# Altium schematic symbol library Tugkan.SchLib: 14 symbols
Pins are listed as number, name and electrical type; pins without a type are passive.

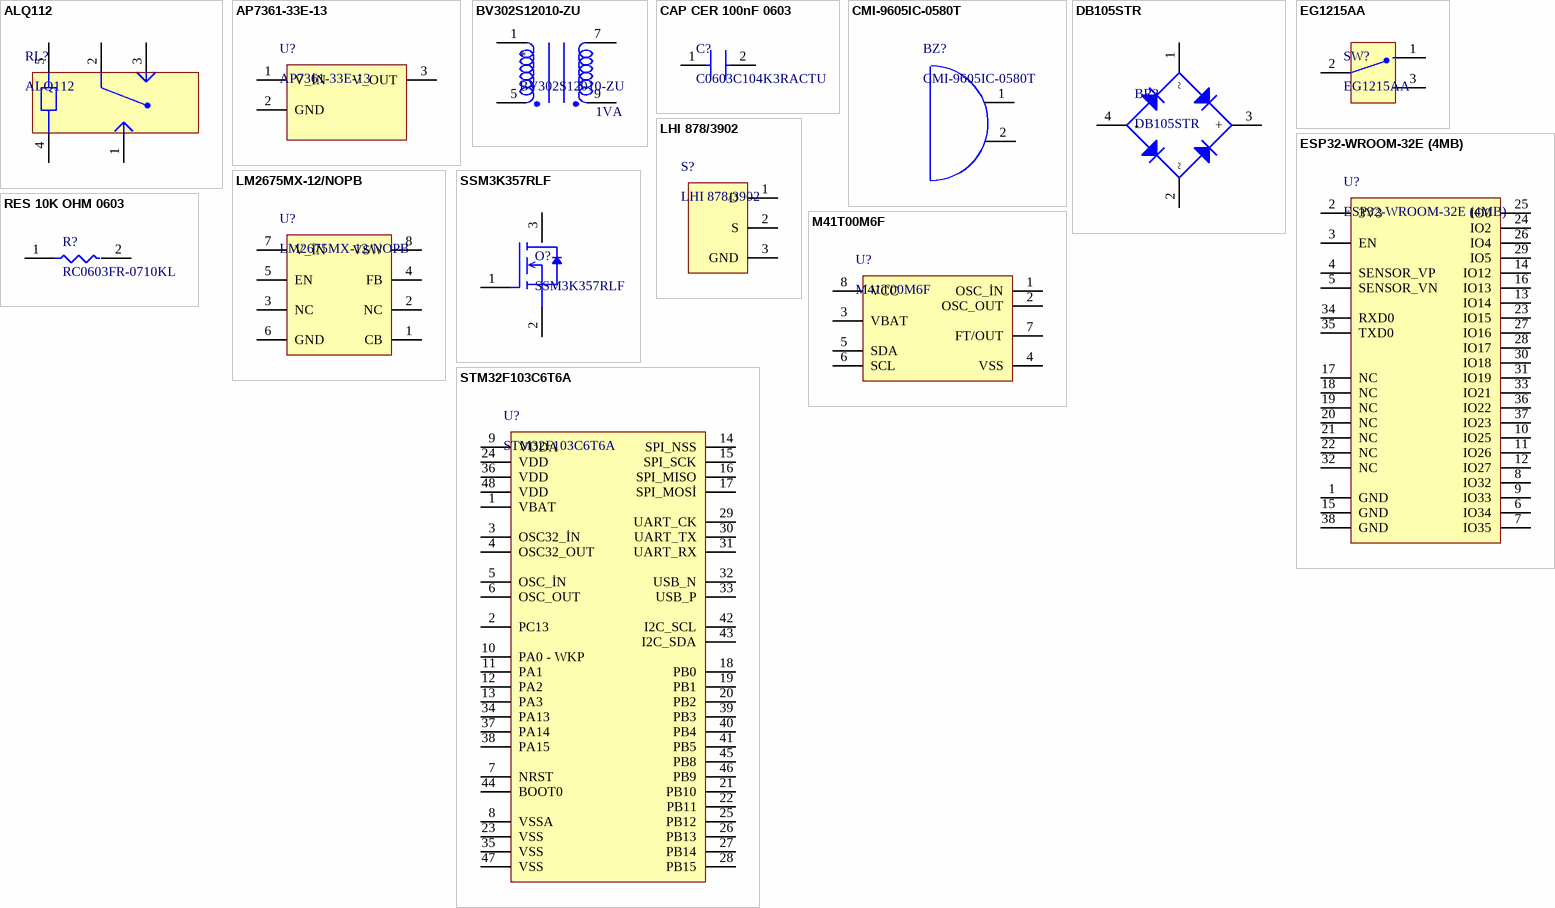
[diagram p0: symbols ALQ112 to STM32F103C6T6A]

## ALQ112
designator RL?
Electromechanical Relay 12VDC 360Ohm 10(NO)/3(NC)A SPDT (( 20mm 10mm 16mm)) THT Power Relay; Manufacturer: Panasonic; Designed By: Tuğkan; Coil Current: 30mA; Coil Power: 400mW; Coil Resistance: 360Ω; Coil Type: Non-Latching; Coil Voltage (DC): 9V; Contact Current Rating: 10A; Contact Resistance: 100mΩ; Contact Voltage Rating (AC): 125V; Electrical Life: 50kcycles; Insulation Resistance: 1GΩ; Max Current Rating: 5A; Max Voltage Rating (AC): 250V; Max Voltage Rating (DC): 30V; Operate Time: 20ms; Relay Type: General Purpose; Sealable: MOISTURE PROOF; Supplier: Farnell; Supplier Part Number: 2503673; Manufacturer Part Number: ALQ112; RoHS: Compliant; Category: Power Relays; Stock: 7013; Pricing: 1=2.25, 10=2.01, 25=1.92, 50=1.85, 100=1.78 (EUR); Contact Material: Silver; Depth: 10mm; Export Control Classification Number (ECCN) Code: EAR99; Height: 16mm; Harmonized Tariff Schedule (HTS) Code: 8536.41.00.20; Introduction Date: 2012-07-17; Lead Free: Lead Free; Length: 20mm; Lifecycle Status: Production; Max Operating Temperature: 85°C; Min Operating Temperature: -40°C; Pins: 5; Number of Terminals: 5; Packaging: Box; Power Consumption: 400mW; Power Rating: 400mW; REACH SVHC: Yes; Release Time: 20ms; Response Time: 20ms; Termination: PC Pin; Throw Configuration: SPDT; Voltage Rating (AC): 250V; Weight: 7g; Width: 10mm; ComponentLink1URL: https://datasheet.octopart.com:443/ALQ112-Panasonic-datasheet-78834688.pdf?src-supplier=IHS; ComponentLink1Description: https://datasheet.octopart.com:443/ALQ112-Panasonic-datasheet-78834688.pdf?src-supplier=IHS; ComponentLink2URL: https://datasheet.octopart.com:443/ALQ112-Panasonic-datasheet-55972779.pdf?src-supplier=RS+(Formerly+Allied+Electronics); ComponentLink2Description: https://datasheet.octopart.com:443/ALQ112-Panasonic-datasheet-55972779.pdf?src-supplier=RS+(Formerly+Allied+Electronics); ComponentLink3URL: https://datasheet.octopart.com:443/ALQ112-Panasonic-datasheet-151511680.pdf?src-supplier=Master+Electronics; ComponentLink3Description: https://datasheet.octopart.com:443/ALQ112-Panasonic-datasheet-151511680.pdf?src-supplier=Master+Electronics; ComponentLink4URL: https://datasheet.octopart.com:443/ALQ112-Panasonic-datasheet-137460476.pdf?src-supplier=Electro+Sonic; ComponentLink4Description: https://datasheet.octopart.com:443/ALQ112-Panasonic-datasheet-137460476.pdf?src-supplier=Electro+Sonic; ComponentLink5URL: https://datasheet.octopart.com:443/ALQ112-Panasonic-datasheet-27086609.pdf?src-supplier=Electro+Sonic; ComponentLink5Description: https://datasheet.octopart.com:443/ALQ112-Panasonic-datasheet-27086609.pdf?src-supplier=Electro+Sonic; ComponentLink6URL: https://datasheet.octopart.com:443/ALQ112-Panasonic-datasheet-45185651.pdf?src-supplier=Electro+Sonic; ComponentLink6Description: https://datasheet.octopart.com:443/ALQ112-Panasonic-datasheet-45185651.pdf?src-supplier=Electro+Sonic; ComponentLink7URL: https://datasheet.octopart.com:443/ALQ112-Panasonic-datasheet-17725145.pdf?src-supplier=Factory+Futures; ComponentLink7Description: https://datasheet.octopart.com:443/ALQ112-Panasonic-datasheet-17725145.pdf?src-supplier=Factory+Futures; ComponentLink8URL: https://datasheet.octopart.com:443/ALQ112-Panasonic-datasheet-21211495.pdf?src-supplier=Newark; ComponentLink8Description: https://datasheet.octopart.com:443/ALQ112-Panasonic-datasheet-21211495.pdf?src-supplier=Newark; Case/Package: ALQ112
footprint ALQ112
pins: 1, 2, 3, 4, 5

## AP7361-33E-13
designator U?
AP7361 Series 3.3 V 1 A Low SMT Dropout Fixed-Mode Regulator - SOT-223; Manufacturer: Diodes Inc.; Designed By: Tuğkan; Accuracy: 1%; Dropout Voltage: 500mV; Max Supply Voltage: 6V; Max Junction Temperature (Tj): 150°C; Max Output current: 1A; Max Power Dissipation: 1.1W; Min Current Limit: 1.1A; Min Input Voltage: 4.3V; Min Supply Voltage: 2.2V; Nominal Supply Current: 70µA; Number of Channels: 1; Output Type: Fixed; Output Voltage: 3.3V; Polarity: Positive; Power Dissipation: 1.1kW; Power Supply Rejection Ratio (PSRR): 65dB; Reference Voltage: 800mV; Voltage Tolerance: 6.5%; Supplier: Farnell; Supplier Part Number: 3482976; Manufacturer Part Number: AP7361-33E-13; RoHS: Compliant; Category: LDO Voltage Regulators; Stock: 3535; Pricing: 5=0.296, 10=0.202, 100=0.154, 500=0.151, 1000=0.148, 5000=0.145, 10000=0.142 (EUR); Ambient Temperature Range High: 85°C; Case/Package: SOT-223; China RoHS: Compliant; Contact Plating: Tin; Height: 1.8mm; Height - Seated (Max): 1.8mm; Lead Free: Lead Free; Length: 6.5mm; Lifecycle Status: NRND; Max Operating Temperature: 85°C; Min Operating Temperature: -40°C; Mounting Technology: Surface Mount; Number of Circuits: 1; Number of Outputs: 1; Pins: 4; Number of Regulators: 1; Number of Terminals: 3; Output Current: 1A; Quiescent Current: 70µA; Radiation Hardening: No; REACH SVHC: Yes; Schedule B: 8542390000, 8542390000|8542390000|8542390000|8542390000|8542390000; Terminal Pitch: 2.3mm; Weight: 7.994566mg; Width: 3.5mm; ComponentLink1URL: https://datasheet.octopart.com:443/AP7361-33E-13-Diodes-Inc.-datasheet-98864116.pdf?src-supplier=IHS; ComponentLink1Description: https://datasheet.octopart.com:443/AP7361-33E-13-Diodes-Inc.-datasheet-98864116.pdf?src-supplier=IHS; ComponentLink2URL: https://sigma.octopart.com:443/138895852/technical_drawing/Diodes-Inc.-AP7361-33E-13.pdf?src-supplier=Upverter; ComponentLink2Description: https://sigma.octopart.com:443/138895852/technical_drawing/Diodes-Inc.-AP7361-33E-13.pdf?src-supplier=Upverter; ComponentLink3URL: https://datasheet.octopart.com:443/AP7361-33E-13-Diodes-Inc.-datasheet-12540156.pdf?src-supplier=Future+Electronics; ComponentLink3Description: https://datasheet.octopart.com:443/AP7361-33E-13-Diodes-Inc.-datasheet-12540156.pdf?src-supplier=Future+Electronics; ComponentLink4URL: https://datasheet.octopart.com:443/AP7361-33E-13-Diodes-Inc.-datasheet-41619607.pdf?src-supplier=Future+Electronics; ComponentLink4Description: https://datasheet.octopart.com:443/AP7361-33E-13-Diodes-Inc.-datasheet-41619607.pdf?src-supplier=Future+Electronics; ComponentLink5URL: http://sigma.octopart.com:80/15540767/rohs_statement/Diodes-Inc.-AP7361-33E-13.pdf?src-supplier=Compliance+Statements; ComponentLink5Description: http://sigma.octopart.com:80/15540767/rohs_statement/Diodes-Inc.-AP7361-33E-13.pdf?src-supplier=Compliance+Statements
footprint SOT223
pins: 1 V_İN, 2 GND, 3 V_OUT

## BV302S12010-ZU
designator *  Rated Power: 1VA
Manufacturer: Zettler Magnetics; Manufacturer Part Number: BV302512010-ZU; Designed By: Tuğkan; Primary Voltage: 230V; Secondary Voltage: 12V; Operating Frequency: 50-60HZ; Supplier 1: DigiKey; RoHS: No; Case/Package: BV302S12010-ZU
footprint BV302S12010-ZU
pins: 1 4, 5, 7 6, 9 7

## CAP CER 100nF 0603
designator C?, comment C0603C104K3RACTU
100 nF ±10% 10V Ceramic Capacitor X5R 0201 (0603 Metric); Manufacturer: KEMET; Designed By: Tuğkan; Value: 100nF; Dielectric: X7R; Dissipation Factor: 3.5%; Temperature Coefficient: 30ppm/°C; Voltage: 25V; Supplier: Farnell; Supplier Part Number: 2392303; Manufacturer Part Number: C0603C104K3RACTU; RoHS: Compliant; Category: Ceramic Capacitors; Stock: 3638000; Pricing: 4000=0.0129 (EUR); Case/Package: 0603; Case Code (Imperial): 0603; China RoHS: Compliant; Contact Plating: Tin; Country of Origin: Mexico; Depth: 800µm; Dielectric Material: Ceramic; Export Control Classification Number (ECCN) Code: EAR99; Height: 800µm; Harmonized Tariff Schedule (HTS) Code: 8532.24.00.20; Introduction Date: 2008-01-10; Lead Free: Lead Free; Lead Pitch: 700µm; Length: 1.6mm; Lifecycle Status: Production; Material: Ceramic; Max Operating Temperature: 125°C; Min Operating Temperature: -55°C; Mounting Technology: Surface Mount; Pins: 2; Number of Terminals: 2; Packaging: Tape & Reel; Radiation Hardening: No; REACH SVHC: Yes; Schedule B: 8532240020, 8532240020|8532240020, 8532240020|8532240020|8532240020, 8532240020|8532240020|8532240020|8532240020; Termination: SMD/SMT; Thickness: 863.6µm; Tolerance: 10%; Voltage Rating: 25V; Voltage Rating (DC): 25V; Width: 800µm; ComponentLink1URL: https://datasheet.octopart.com:443/C0603C104K3RAC7867-KEMET-datasheet-179096308.pdf?src-supplier=IHS; ComponentLink1Description: https://datasheet.octopart.com:443/C0603C104K3RAC7867-KEMET-datasheet-179096308.pdf?src-supplier=IHS; ComponentLink2URL: https://datasheet.octopart.com:443/C0603C104K3RACTU-KEMET-datasheet-178445679.pdf?src-supplier=IHS; ComponentLink2Description: https://datasheet.octopart.com:443/C0603C104K3RACTU-KEMET-datasheet-178445679.pdf?src-supplier=IHS; ComponentLink3URL: https://datasheet.octopart.com:443/C0603C104K3RAC-TU-Kemet-datasheet-5313890.pdf?src-supplier=Upverter; ComponentLink3Description: https://datasheet.octopart.com:443/C0603C104K3RAC-TU-Kemet-datasheet-5313890.pdf?src-supplier=Upverter; ComponentLink4URL: https://datasheet.octopart.com:443/C0603C104K3RACTU-KEMET-datasheet-137357764.pdf?src-supplier=Upverter; ComponentLink4Description: https://datasheet.octopart.com:443/C0603C104K3RACTU-KEMET-datasheet-137357764.pdf?src-supplier=Upverter; ComponentLink5URL: https://datasheet.octopart.com:443/C0603C104K3RACTU-KEMET-datasheet-137357759.pdf?src-supplier=JRH+Electronics; ComponentLink5Description: https://datasheet.octopart.com:443/C0603C104K3RACTU-KEMET-datasheet-137357759.pdf?src-supplier=JRH+Electronics; ComponentLink6URL: https://datasheet.octopart.com:443/C0603C104K3RACTU-KEMET-datasheet-149521852.pdf?src-supplier=Farnell; ComponentLink6Description: https://datasheet.octopart.com:443/C0603C104K3RACTU-KEMET-datasheet-149521852.pdf?src-supplier=Farnell; ComponentLink7URL: https://datasheet.octopart.com:443/C0603C104K3RACTU-KEMET-datasheet-101575651.pdf?src-supplier=Farnell; ComponentLink7Description: https://datasheet.octopart.com:443/C0603C104K3RACTU-KEMET-datasheet-101575651.pdf?src-supplier=Farnell; ComponentLink8URL: https://datasheet.octopart.com:443/C0603C104K3RACTU-KEMET-datasheet-176142157.pdf?src-supplier=Farnell; ComponentLink8Description: https://datasheet.octopart.com:443/C0603C104K3RACTU-KEMET-datasheet-176142157.pdf?src-supplier=Farnell; ComponentLink9URL: https://datasheet.octopart.com:443/C0603C104K3RAC-TU-Kemet-datasheet-7833651.pdf?src-supplier=Farnell; ComponentLink9Description: https://datasheet.octopart.com:443/C0603C104K3RAC-TU-Kemet-datasheet-7833651.pdf?src-supplier=Farnell; ComponentLink10URL: https://datasheet.octopart.com:443/C0603C104K3RAC-TU-Kemet-datasheet-7601896.pdf?src-supplier=Farnell; ComponentLink10Description: https://datasheet.octopart.com:443/C0603C104K3RAC-TU-Kemet-datasheet-7601896.pdf?src-supplier=Farnell; ComponentLink11URL: https://datasheet.octopart.com:443/C0603C104K3RAC-TU-Kemet-datasheet-5316294.pdf?src-supplier=Farnell; ComponentLink11Description: https://datasheet.octopart.com:443/C0603C104K3RAC-TU-Kemet-datasheet-5316294.pdf?src-supplier=Farnell; ComponentLink12URL: https://datasheet.octopart.com:443/C0603C104K3RAC-TU-Kemet-datasheet-5314837.pdf?src-supplier=Farnell; ComponentLink12Description: https://datasheet.octopart.com:443/C0603C104K3RAC-TU-Kemet-datasheet-5314837.pdf?src-supplier=Farnell; ComponentLink13URL: https://datasheet.octopart.com:443/C0603C104K3RAC-TU-Kemet-datasheet-8092359.pdf?src-supplier=Farnell; ComponentLink13Description: https://datasheet.octopart.com:443/C0603C104K3RAC-TU-Kemet-datasheet-8092359.pdf?src-supplier=Farnell; ComponentLink14URL: https://datasheet.octopart.com:443/C0603C104K3RAC-TU-Kemet-datasheet-5314449.pdf?src-supplier=Farnell; ComponentLink14Description: https://datasheet.octopart.com:443/C0603C104K3RAC-TU-Kemet-datasheet-5314449.pdf?src-supplier=Farnell; ComponentLink15URL: https://datasheet.octopart.com:443/C0603C104K3RAC-TU-Kemet-datasheet-5314969.pdf?src-supplier=Farnell; ComponentLink15Description: https://datasheet.octopart.com:443/C0603C104K3RAC-TU-Kemet-datasheet-5314969.pdf?src-supplier=Farnell; ComponentLink16URL: https://datasheet.octopart.com:443/C0603C104K3RAC-TU-Kemet-datasheet-5314627.pdf?src-supplier=Farnell; ComponentLink16Description: https://datasheet.octopart.com:443/C0603C104K3RAC-TU-Kemet-datasheet-5314627.pdf?src-supplier=Farnell; ComponentLink17URL: https://datasheet.octopart.com:443/C0603C104K3RAC-TU-Kemet-datasheet-5389132.pdf?src-supplier=Farnell; ComponentLink17Description: https://datasheet.octopart.com:443/C0603C104K3RAC-TU-Kemet-datasheet-5389132.pdf?src-supplier=Farnell; ComponentLink18URL: https://datasheet.octopart.com:443/C0603C104K3RAC-TU-Kemet-datasheet-5313836.pdf?src-supplier=Farnell; ComponentLink18Description: https://datasheet.octopart.com:443/C0603C104K3RAC-TU-Kemet-datasheet-5313836.pdf?src-supplier=Farnell; ComponentLink19URL: https://datasheet.octopart.com:443/C0603C104K3RAC-TU-Kemet-datasheet-8111010.pdf?src-supplier=Farnell; ComponentLink19Description: https://datasheet.octopart.com:443/C0603C104K3RAC-TU-Kemet-datasheet-8111010.pdf?src-supplier=Farnell; ComponentLink20URL: https://datasheet.octopart.com:443/C0603C104K3RAC-TU-Kemet-datasheet-7627733.pdf?src-supplier=Farnell; ComponentLink20Description: https://datasheet.octopart.com:443/C0603C104K3RAC-TU-Kemet-datasheet-7627733.pdf?src-supplier=Farnell; ComponentLink21URL: https://datasheet.octopart.com:443/C0603C104K3RAC-TU-Kemet-datasheet-5315946.pdf?src-supplier=Farnell; ComponentLink21Description: https://datasheet.octopart.com:443/C0603C104K3RAC-TU-Kemet-datasheet-5315946.pdf?src-supplier=Farnell; ComponentLink22URL: https://datasheet.octopart.com:443/C0603C104K3RACTU-Kemet-datasheet-32036385.pdf?src-supplier=Electro+Sonic; ComponentLink22Description: https://datasheet.octopart.com:443/C0603C104K3RACTU-Kemet-datasheet-32036385.pdf?src-supplier=Electro+Sonic; ComponentLink23URL: https://datasheet.octopart.com:443/C0603C104K3RACTU-KEMET-datasheet-157246124.pdf?src-supplier=Electro+Sonic; ComponentLink23Description: https://datasheet.octopart.com:443/C0603C104K3RACTU-KEMET-datasheet-157246124.pdf?src-supplier=Electro+Sonic; ComponentLink24URL: https://datasheet.octopart.com:443/C0603C104K3RACTU-Kemet-datasheet-12608295.pdf?src-supplier=element14+APAC; ComponentLink24Description: https://datasheet.octopart.com:443/C0603C104K3RACTU-Kemet-datasheet-12608295.pdf?src-supplier=element14+APAC; ComponentLink25URL: https://datasheet.octopart.com:443/C0603C104K3RACTU-Kemet-datasheet-11992184.pdf?src-supplier=element14+APAC; ComponentLink25Description: https://datasheet.octopart.com:443/C0603C104K3RACTU-Kemet-datasheet-11992184.pdf?src-supplier=element14+APAC; ComponentLink26URL: https://datasheet.octopart.com:443/C0603C104K3RACTU-Kemet-datasheet-10942409.pdf?src-supplier=element14+APAC; ComponentLink26Description: https://datasheet.octopart.com:443/C0603C104K3RACTU-Kemet-datasheet-10942409.pdf?src-supplier=element14+APAC; ComponentLink27URL: https://datasheet.octopart.com:443/C0603C104K3RACTU-Kemet-datasheet-10404442.pdf?src-supplier=element14+APAC; ComponentLink27Description: https://datasheet.octopart.com:443/C0603C104K3RACTU-Kemet-datasheet-10404442.pdf?src-supplier=element14+APAC; ComponentLink28URL: https://datasheet.octopart.com:443/C0603C104K3RACTU-Kemet-datasheet-24570007.pdf?src-supplier=element14+APAC; ComponentLink28Description: https://datasheet.octopart.com:443/C0603C104K3RACTU-Kemet-datasheet-24570007.pdf?src-supplier=element14+APAC; ComponentLink29URL: https://datasheet.octopart.com:443/C0603C104K3RACTU-Kemet-datasheet-22084244.pdf?src-supplier=element14+APAC; ComponentLink29Description: https://datasheet.octopart.com:443/C0603C104K3RACTU-Kemet-datasheet-22084244.pdf?src-supplier=element14+APAC; ComponentLink30URL: https://datasheet.octopart.com:443/C0603C104K3RAC-TU-Kemet-datasheet-5390537.pdf?src-supplier=Newark; ComponentLink30Description: https://datasheet.octopart.com:443/C0603C104K3RAC-TU-Kemet-datasheet-5390537.pdf?src-supplier=Newark; ComponentLink31URL: https://datasheet.octopart.com:443/C0603C104K3RAC-TU-Kemet-datasheet-7541751.pdf?src-supplier=Newark; ComponentLink31Description: https://datasheet.octopart.com:443/C0603C104K3RAC-TU-Kemet-datasheet-7541751.pdf?src-supplier=Newark; ComponentLink32URL: https://datasheet.octopart.com:443/C0603C104K3RACTU-KEMET-datasheet-176289393.pdf?src-supplier=Newark; ComponentLink32Description: https://datasheet.octopart.com:443/C0603C104K3RACTU-KEMET-datasheet-176289393.pdf?src-supplier=Newark; ComponentLink33URL: https://datasheet.octopart.com:443/C0603C104K3RACTU-KEMET-datasheet-130256537.pdf?src-supplier=Newark; ComponentLink33Description: https://datasheet.octopart.com:443/C0603C104K3RACTU-KEMET-datasheet-130256537.pdf?src-supplier=Newark; ComponentLink34URL: https://datasheet.octopart.com:443/C0603C104K3RACTU-Kemet-datasheet-27203261.pdf?src-supplier=Newark; ComponentLink34Description: https://datasheet.octopart.com:443/C0603C104K3RACTU-Kemet-datasheet-27203261.pdf?src-supplier=Newark; ComponentLink35URL: https://datasheet.octopart.com:443/C0603C104K3RACTU-Kemet-datasheet-8764837.pdf?src-supplier=Newark; ComponentLink35Description: https://datasheet.octopart.com:443/C0603C104K3RACTU-Kemet-datasheet-8764837.pdf?src-supplier=Newark; ComponentLink36URL: https://datasheet.octopart.com:443/C0603C104K3RACTU-Kemet-datasheet-8480123.pdf?src-supplier=Newark; ComponentLink36Description: https://datasheet.octopart.com:443/C0603C104K3RACTU-Kemet-datasheet-8480123.pdf?src-supplier=Newark; ComponentLink37URL: https://datasheet.octopart.com:443/C0603C104K3RACTU-Kemet-datasheet-5393970.pdf?src-supplier=Newark; ComponentLink37Description: https://datasheet.octopart.com:443/C0603C104K3RACTU-Kemet-datasheet-5393970.pdf?src-supplier=Newark; ComponentLink38URL: https://datasheet.octopart.com:443/C0603C104K3RACTU-Kemet-datasheet-8502025.pdf?src-supplier=Newark; ComponentLink38Description: https://datasheet.octopart.com:443/C0603C104K3RACTU-Kemet-datasheet-8502025.pdf?src-supplier=Newark; ComponentLink39URL: https://datasheet.octopart.com:443/C0603C104K3RACTU-Kemet-datasheet-161801.pdf?src-supplier=Newark; ComponentLink39Description: https://datasheet.octopart.com:443/C0603C104K3RACTU-Kemet-datasheet-161801.pdf?src-supplier=Newark; ComponentLink40URL: https://datasheet.octopart.com:443/C0603C104K3RACTU-KEMET-datasheet-164512540.pdf?src-supplier=TME; ComponentLink40Description: https://datasheet.octopart.com:443/C0603C104K3RACTU-KEMET-datasheet-164512540.pdf?src-supplier=TME; ComponentLink41URL: https://datasheet.octopart.com:443/C0603C104K3RACTU-KEMET-datasheet-73766504.pdf?src-supplier=TME; ComponentLink41Description: https://datasheet.octopart.com:443/C0603C104K3RACTU-KEMET-datasheet-73766504.pdf?src-supplier=TME; ComponentLink42URL: https://datasheet.octopart.com:443/C0603C104K3RACTU-KEMET-datasheet-68331906.pdf?src-supplier=TME; ComponentLink42Description: https://datasheet.octopart.com:443/C0603C104K3RACTU-KEMET-datasheet-68331906.pdf?src-supplier=TME; ComponentLink43URL: https://datasheet.octopart.com:443/C0603C104K3RACTU-KEMET-datasheet-110724412.pdf?src-supplier=RS+(Formerly+Allied+Electronics); ComponentLink43Description: https://datasheet.octopart.com:443/C0603C104K3RACTU-KEMET-datasheet-110724412.pdf?src-supplier=RS+(Formerly+Allied+Electronics); ComponentLink44URL: https://datasheet.octopart.com:443/C0603C104K3RACTU-Kemet-datasheet-464.pdf?src-supplier=RS+(Formerly+Allied+Electronics); ComponentLink44Description: https://datasheet.octopart.com:443/C0603C104K3RACTU-Kemet-datasheet-464.pdf?src-supplier=RS+(Formerly+Allied+Electronics); ComponentLink45URL: https://datasheet.octopart.com/C0603C104K3RACTU-KEMET-datasheet-84169754.pdf; ComponentLink45Description: https://datasheet.octopart.com/C0603C104K3RACTU-KEMET-datasheet-84169754.pdf; ComponentLink46URL: https://datasheet.octopart.com:443/C0603C104K3RACTU-Kemet-datasheet-11774378.pdf?src-supplier=Arrow+Electronics; ComponentLink46Description: https://datasheet.octopart.com:443/C0603C104K3RACTU-Kemet-datasheet-11774378.pdf?src-supplier=Arrow+Electronics; ComponentLink47URL: https://datasheet.octopart.com:443/C0603C104K3RAC-TU-Kemet-datasheet-7284545.pdf?src-supplier=Jameco; ComponentLink47Description: https://datasheet.octopart.com:443/C0603C104K3RAC-TU-Kemet-datasheet-7284545.pdf?src-supplier=Jameco
footprint CAP_0603
pins: 1 6, 2 7

## CMI-9605IC-0580T
designator BZ?
9.6 mm, 5 Vdc, 80 dB, Through Hole, Driving Circuit, Magnetic Audio Indicator Buzzer; Manufacturer: Same Sky; Shape: Round; Voltage Rating: 5V; Supplier: Arrow Electronics; Supplier Part Number: CMI-9605IC-0580T; Manufacturer Part Number: CMI-9605IC-0580T; RoHS: Compliant; Category: Buzzers; Stock: 113; Pricing: 1=0.9184 (USD); Height: 5mm; Length: 9.6mm; Lifecycle Status: Production; Mounting Technology: Through Hole; Schedule B: 8531800040, 8531800040|8531800040, 8531800040|8531800040|8531800040, 8531800040|8531800040|8531800040|8531800040; Width: 9.6mm; ComponentLink1URL: https://datasheet.octopart.com:443/CMI-9605IC-0580T-Same-Sky-datasheet-188822489.pdf?src-supplier=Same+Sky; ComponentLink1Description: https://datasheet.octopart.com:443/CMI-9605IC-0580T-Same-Sky-datasheet-188822489.pdf?src-supplier=Same+Sky; ComponentLink2URL: https://datasheet.octopart.com:443/CMI-9605IC-0580T-Same-Sky-datasheet-181914603.pdf?src-supplier=Same+Sky; ComponentLink2Description: https://datasheet.octopart.com:443/CMI-9605IC-0580T-Same-Sky-datasheet-181914603.pdf?src-supplier=Same+Sky; ComponentLink3URL: https://datasheet.octopart.com:443/CMI-9605IC-0580T-Same-Sky-datasheet-182879756.pdf?src-supplier=Electro+Sonic; ComponentLink3Description: https://datasheet.octopart.com:443/CMI-9605IC-0580T-Same-Sky-datasheet-182879756.pdf?src-supplier=Electro+Sonic; ComponentLink4URL: https://datasheet.octopart.com:443/CMI-9605IC-0580T-Same-Sky-datasheet-189104509.pdf?src-supplier=Master+Electronics; ComponentLink4Description: https://datasheet.octopart.com:443/CMI-9605IC-0580T-Same-Sky-datasheet-189104509.pdf?src-supplier=Master+Electronics; ComponentLink5URL: https://datasheet.octopart.com:443/CMI-9605IC-0580T-Same-Sky-datasheet-188930169.pdf?src-supplier=TME; ComponentLink5Description: https://datasheet.octopart.com:443/CMI-9605IC-0580T-Same-Sky-datasheet-188930169.pdf?src-supplier=TME; ComponentLink6URL: https://datasheet.octopart.com:443/CMI-9605IC-0580T-CUI-Devices-datasheet-175926881.pdf?src-supplier=CUI+Devices+SCT; ComponentLink6Description: https://datasheet.octopart.com:443/CMI-9605IC-0580T-CUI-Devices-datasheet-175926881.pdf?src-supplier=CUI+Devices+SCT; ComponentLink7URL: https://datasheet.octopart.com:443/CMI-9605IC-0580T-CUI-Devices-datasheet-142347661.pdf?src-supplier=CUI+Devices+SCT; ComponentLink7Description: https://datasheet.octopart.com:443/CMI-9605IC-0580T-CUI-Devices-datasheet-142347661.pdf?src-supplier=CUI+Devices+SCT; ComponentLink8URL: https://octopart.com:443/opatz8j6/c1?t=gNoYZBnXsqZAiqa4lELlm7Ay1TIAOyxMCbO6gUmOTd14-ico8ztZ7o9YEEhdoMdi29SlHCkZwMQySa7EtK9snRVWLe1NQD2Viq_G6CNxm550ZqxJcVJ97jiWITRdXg6qgt_8BUBnoJN3ksgOHr6NtoXdrNBvmTvSBosYG4dyHtcaS6oVgSZP5HIZLHWb8PFGLLwOZyr6iNcJeRpui-ITlm-aYThpuK9urovyjTGSytXZdGDLc2qewTqwN41_H9XadGc658N-d-C6Wp7a4XSk1kLFJhkl0sGl6vPoClgESX7RXNA55XSGH5PVWlY2xYxHus0x7ZD2SVdpq-EMo7F9bqL5ROhyYr2lduvRr2WpM4jJ&src-supplier=Compliance+Statements; ComponentLink8Description: https://octopart.com:443/opatz8j6/c1?t=gNoYZBnXsqZAiqa4lELlm7Ay1TIAOyxMCbO6gUmOTd14-ico8ztZ7o9YEEhdoMdi29SlHCkZwMQySa7EtK9snRVWLe1NQD2Viq_G6CNxm550ZqxJcVJ97jiWITRdXg6qgt_8BUBnoJN3ksgOHr6NtoXdrNBvmTvSBosYG4dyHtcaS6oVgSZP5HIZLHWb8PFGLLwOZyr6iNcJeRpui-ITlm-aYThpuK9urovyjTGSytXZdGDLc2qewTqwN41_H9XadGc658N-d-C6Wp7a4XSk1kLFJhkl0sGl6vPoClgESX7RXNA55XSGH5PVWlY2xYxHus0x7ZD2SVdpq-EMo7F9bqL5ROhyYr2lduvRr2WpM4jJ&src-supplier=Compliance+Statements; ComponentLink9URL: https://octopart.com:443/opatz8j6/c1?t=06Hfs3Jjd3gz28tx2AzmzamLHM4oyeQPJ9_XTeKRkfiYWjpNy2dLXT53dGgfFcGkUN5boXnYc--opHBMbImPIds--bHflgBDtgpoLCZl0n8-qmPpGDcJRIHhNSzumo2im2CGBPJBoKxXIIuC4tMZoLjY4Vbw6VyrFL0ykrRKc7A5KR7lg7hVa_18uoBWnkLB6wyMRMWN64AnaG-TMQEA3Zi8ra9tYpvAwMD2_MyaiWa101eB020NnTHAwgk-d3IBAYDRMjn2bUyDkowwBKSbU3_tIVo_CNN4hV_B1hf-w4K2opDfrmLL1RVSfzswdmmPMYWINcmeCbAk7fgARi_YdxM4HCubciL8UGiy61jq5DZQ&src-supplier=Compliance+Statements; ComponentLink9Description: https://octopart.com:443/opatz8j6/c1?t=06Hfs3Jjd3gz28tx2AzmzamLHM4oyeQPJ9_XTeKRkfiYWjpNy2dLXT53dGgfFcGkUN5boXnYc--opHBMbImPIds--bHflgBDtgpoLCZl0n8-qmPpGDcJRIHhNSzumo2im2CGBPJBoKxXIIuC4tMZoLjY4Vbw6VyrFL0ykrRKc7A5KR7lg7hVa_18uoBWnkLB6wyMRMWN64AnaG-TMQEA3Zi8ra9tYpvAwMD2_MyaiWa101eB020NnTHAwgk-d3IBAYDRMjn2bUyDkowwBKSbU3_tIVo_CNN4hV_B1hf-w4K2opDfrmLL1RVSfzswdmmPMYWINcmeCbAk7fgARi_YdxM4HCubciL8UGiy61jq5DZQ&src-supplier=Compliance+Statements; Cash/Package: CMI-9605IC
footprint CMI-9605IC-0580T
pins: 1 42, 2 43

## DB105STR
designator BR?
Bridge Rectifier Single Phase Standard 600 V Surface Mount DB-S; Manufacturer: Sangdesk Microelectronik; Designed by: Tuğkan; Operating Voltage: 600V; Max Current: 1A; Supplier 1: DigiKey; Manufacturer Part Num: DB105STR; RoHS: No; Supplier Part Number: 1655-1821-1-ND; Cash/Package: DB105STR
footprint DB105STR
pins: 1 ~, 2 ~, 3 +, 4 -

## EG1215AA
designator SW?
Slide Switch, SPDT, On-on, 25 ma, 24V DC, Surf. Mt., Ra, Gull Wing; Manufacturer: E-Switch; Contact Current Rating: 25mA; Number of Positions: 2; Supplier: Farnell; Supplier Part Number: 4050996; Manufacturer Part Number: EG1215AA; RoHS: Compliant; Category: Uncategorized; Stock: 7439; Pricing: 1=0.838, 10=0.714, 25=0.664, 50=0.628, 100=0.592 (EUR); Contact Material: Copper; Country of Origin: Vietnam; Export Control Classification Number (ECCN) Code: EAR99; Harmonized Tariff Schedule (HTS) Code: 8536.50.70.00; Introduction Date: 2018-06-18; Lifecycle Status: Production; REACH SVHC: Yes; ComponentLink1URL: https://datasheet.octopart.com:443/EG1215AA-E-Switch-datasheet-182201887.pdf?src-supplier=IHS; ComponentLink1Description: https://datasheet.octopart.com:443/EG1215AA-E-Switch-datasheet-182201887.pdf?src-supplier=IHS; ComponentLink2URL: https://datasheet.octopart.com:443/EG1215AA-E-Switch-datasheet-156105969.pdf?src-supplier=Future+Electronics; ComponentLink2Description: https://datasheet.octopart.com:443/EG1215AA-E-Switch-datasheet-156105969.pdf?src-supplier=Future+Electronics; ComponentLink3URL: https://datasheet.octopart.com:443/EG1215AA-E-Switch-datasheet-101745667.pdf?src-supplier=Electro+Sonic; ComponentLink3Description: https://datasheet.octopart.com:443/EG1215AA-E-Switch-datasheet-101745667.pdf?src-supplier=Electro+Sonic
pins: 1, 2, 3

## ESP32-WROOM-32E (4MB)
designator U?
Bluetooth, WiFi 802.11b/g/n, Bluetooth v4.2 +EDR, Class 1, 2 and 3 Transceiver Module 2.4GHz ~ 2.5GHz PCB Trace Surface Mount; Suppley Voltage-Nom: 3V3; Max Operating Temperature: +85; Min Operating Temperature: -40
pins: 1 GND, 2 3V3, 3 EN, 4 SENSOR_VP, 5 SENSOR_VN, 6 IO34, 7 IO35, 8 IO32, 9 IO33, 10 IO25, 11 IO26, 12 IO27, 13 IO14, 14 IO12, 15 GND, 16 IO13, 17 NC, 18 NC, 19 NC, 20 NC, 21 NC, 22 NC, 23 IO15, 24 IO2, 25 IO0, 26 IO4, 27 IO16, 28 IO17, 29 IO5, 30 IO18, 31 IO19, 32 NC, 33 IO21, 34 RXD0, 35 TXD0, 36 IO22, 37 IO23, 38 GND

## LHI 878/3902
designator S?
Sensor PIR (Passive Infrared) TO-205AA, TO-5-3 Metal Can; Designed by: Tuğkan; Max Supply Voltage: 12V; Min Supply Voltage: 2V; Type: Pyro Detector; Supplier Part Number: 1601-LHI878/3902-ND; Supplier 1: DigiKey; Cash/Package: LHI 878/3902
footprint LHI 878/3902
pins: 1 D, 2 S, 3 GND

## LM2675MX-12/NOPB
designator U?
SIMPLE SWITCHER® 6.5V to 40V, 1A Low Component Count Step-Down Regulator 8-SOIC -40 to 125; Manufacturer: Texas Instruments; Manufacturer Lifecycle Status: ACTIVE; Efficiency: 94%; Max Duty Cycle: 95%; Max Junction Temperature (Tj): 125°C; Min Input Voltage: 8V; Nominal Supply Current: 2.5mA; Number of Outputs: 1; Output Type: Fixed; Output Voltage: 12V; Switching Frequency: 260kHz; Synchronous Rectifier: No; Topology: Buck; Designed By: Tuğkan; Supplier: Arrow Electronics; Supplier Part Number: LM2675MX-12/NOPB; Manufacturer Part Number: LM2675MX-12/NOPB; RoHS: Compliant; Category: Voltage Regulators - Switching; Stock: 894; Pricing: 1=2.904, 10=2.62, 25=2.523, 100=2.406, 250=2.34, 500=2.304 (USD); Case/Package: SOIC; Contact Plating: Tin; Height: 1.75mm; Lead Free: Lead Free; Length: 4.9mm; Lifecycle Status: Production; Max Supply Voltage: 40V; Max Operating Temperature: 125°C; Max Output current: 1A; Min Operating Temperature: -40°C; Min Supply Voltage: 6.5V; Mounting Technology: Surface Mount; Pins: 8; Operating Supply Voltage: 40V; Output Current: 1A; Quiescent Current: 2.5mA; Radiation Hardening: No; Schedule B: 8542390000; Thickness: 1.58mm; Width: 3.91mm; ComponentLink1URL: https://datasheet.octopart.com:443/LM2675MX-12-NOPB-Texas-Instruments-datasheet-40057392.pdf?src-supplier=Texas+Instruments; ComponentLink1Description: https://datasheet.octopart.com:443/LM2675MX-12-NOPB-Texas-Instruments-datasheet-40057392.pdf?src-supplier=Texas+Instruments; ComponentLink2URL: https://octopart.com:443/opatz8j6/c1?t=mA2c8ne5ygNd6GEMsriL84l0b7gzGufALwLpqlb0tQO3EQLUL6EWEDpvh762yrnPRo5H8nIADzAP37WJN7BAH3oNmDd5phveketjWA_YdkYQ3UaQMVkkeKpJSOI1HXBTCaeTzpCavBEWxv7P7ub5IEthaTWhZLS_LXsXtjDObCuXP54hEMAUrtV-uYAATVP_FiDC1OWSm3Cgl5Nry0Msxrj-V0z3pt9NChfAxgc0clsYGO7I576tpzO63CxpI15DjQ1NupBiCdSey0y3d-aaFu-zBX5bNlJ5QlDO1nVny_A-mfNA2iLl_9Z73qlji7yMnYxAu6UpIXNzcmxIJz2TIJgUaa3jDgKSR5vGywpxrYVsWP12mGh5L1qc01Z0AnaHNcCZsw&src-supplier=Texas+Instruments; ComponentLink2Description: https://octopart.com:443/opatz8j6/c1?t=mA2c8ne5ygNd6GEMsriL84l0b7gzGufALwLpqlb0tQO3EQLUL6EWEDpvh762yrnPRo5H8nIADzAP37WJN7BAH3oNmDd5phveketjWA_YdkYQ3UaQMVkkeKpJSOI1HXBTCaeTzpCavBEWxv7P7ub5IEthaTWhZLS_LXsXtjDObCuXP54hEMAUrtV-uYAATVP_FiDC1OWSm3Cgl5Nry0Msxrj-V0z3pt9NChfAxgc0clsYGO7I576tpzO63CxpI15DjQ1NupBiCdSey0y3d-aaFu-zBX5bNlJ5QlDO1nVny_A-mfNA2iLl_9Z73qlji7yMnYxAu6UpIXNzcmxIJz2TIJgUaa3jDgKSR5vGywpxrYVsWP12mGh5L1qc01Z0AnaHNcCZsw&src-supplier=Texas+Instruments; ComponentLink3URL: https://sigma.octopart.com:443/49249642/technical_drawing/Texas-Instruments-LM2675MX-12-NOPB.pdf?src-supplier=Texas+Instruments; ComponentLink3Description: https://sigma.octopart.com:443/49249642/technical_drawing/Texas-Instruments-LM2675MX-12-NOPB.pdf?src-supplier=Texas+Instruments; ComponentLink4URL: https://datasheet.octopart.com:443/LM2675MX-12/NOPB-Texas-Instruments-datasheet-10678746.pdf?src-supplier=Verical; ComponentLink4Description: https://datasheet.octopart.com:443/LM2675MX-12/NOPB-Texas-Instruments-datasheet-10678746.pdf?src-supplier=Verical; ComponentLink5URL: https://datasheet.octopart.com:443/LM2675MX-12/NOPB-National-Semiconductor-datasheet-14587.pdf?src-supplier=Verical; ComponentLink5Description: https://datasheet.octopart.com:443/LM2675MX-12/NOPB-National-Semiconductor-datasheet-14587.pdf?src-supplier=Verical; ComponentLink6URL: https://datasheet.octopart.com:443/LM2675MX-12-NOPB-Texas-Instruments-datasheet-17727414.pdf?src-supplier=HQonline; ComponentLink6Description: https://datasheet.octopart.com:443/LM2675MX-12-NOPB-Texas-Instruments-datasheet-17727414.pdf?src-supplier=HQonline; ComponentLink7URL: https://datasheet.octopart.com:443/LM2675MX-12-NOPB-Texas-Instruments-datasheet-137316104.pdf?src-supplier=Future+Electronics; ComponentLink7Description: https://datasheet.octopart.com:443/LM2675MX-12-NOPB-Texas-Instruments-datasheet-137316104.pdf?src-supplier=Future+Electronics; ComponentLink8URL: http://sigma.octopart.com:80/reach_statement/Texas-Instruments-company-64.pdf?src-supplier=Compliance+Statements; ComponentLink8Description: http://sigma.octopart.com:80/reach_statement/Texas-Instruments-company-64.pdf?src-supplier=Compliance+Statements; ComponentLink9URL: http://sigma.octopart.com:80/conflict_mineral_statement/Texas-Instruments-company-63.pdf?src-supplier=Compliance+Statements; ComponentLink9Description: http://sigma.octopart.com:80/conflict_mineral_statement/Texas-Instruments-company-63.pdf?src-supplier=Compliance+Statements
footprint SOIC 8
pins: 1 CB, 2 NC, 3 NC, 4 FB, 5 EN, 6 GND, 7 V_İN, 8 VSW

## M41T00M6F
designator U?
RTC IC, Date Time Format (Date/Month/Year ss: mm: hh), I2C, 2 V to 5.5 V, SOIC-8; Manufacturer: STMicroelectronics; Date Format: YY-MM-DD-dd; Frequency: 100kHz; Interface: 2-Wire, Serial; Logic Function: Clock; Clock Frequency: 32kHz; Max Supply Voltage: 5.5V; Memory Size: 8B; Min Supply Voltage: 2V; Nominal Supply Current: 800nA; Number of Outputs: 1; Number of Timers/Counters: 0; Operating Supply Voltage: 3V; Time Format: HH:MM:SS; Designed by: Tuğkan; Supplier: Arrow Electronics; Supplier Part Number: M41T00M6F; Manufacturer Part Number: M41T00M6F; RoHS: Compliant; Category: Real Time Clocks; Stock: 2500; Pricing: 2500=1.567 (USD); Ambient Temperature Range High: 85°C; Case/Package: SOIC; China RoHS: Compliant; Country of Origin: Morocco; Export Control Classification Number (ECCN) Code: EAR99; Height: 1.75mm; Height - Seated (Max): 1.75mm; Harmonized Tariff Schedule (HTS) Code: 8542.39.00.60; Introduction Date: 1980-01-04; Lead Free: Lead Free; Length: 4.9mm; Lifecycle Status: Production; Max Operating Temperature: 85°C; Min Operating Temperature: -40°C; Mounting Technology: Surface Mount; Non-volatile Memory Size: 8B; Pins: 8; Number of Terminals: 8; Packaging: Tape and Reel; Radiation Hardening: No; RAM Size: 8B; REACH SVHC: Yes; Schedule B: 8542390000, 8542390000|8542390000, 8542390000|8542390000|8542390000, 8542390000|8542390000|8542390000|8542390000; Terminal Pitch: 1.27mm; Weight: 540.001716mg; Width: 3.9mm; ComponentLink1URL: https://datasheet.octopart.com:443/M41T00M6F-STMicroelectronics-datasheet-62333762.pdf?src-supplier=HQonline; ComponentLink1Description: https://datasheet.octopart.com:443/M41T00M6F-STMicroelectronics-datasheet-62333762.pdf?src-supplier=HQonline; ComponentLink2URL: https://datasheet.octopart.com:443/M41T00M6F-STMicroelectronics-datasheet-10837540.pdf?src-supplier=Newark; ComponentLink2Description: https://datasheet.octopart.com:443/M41T00M6F-STMicroelectronics-datasheet-10837540.pdf?src-supplier=Newark; ComponentLink3URL: https://datasheet.octopart.com:443/M41T00M6F-STMicroelectronics-datasheet-33008800.pdf?src-supplier=Newark; ComponentLink3Description: https://datasheet.octopart.com:443/M41T00M6F-STMicroelectronics-datasheet-33008800.pdf?src-supplier=Newark; ComponentLink4URL: https://datasheet.octopart.com:443/M41T00M6F-STMicroelectronics-datasheet-605854.pdf?src-supplier=Arrow+Electronics; ComponentLink4Description: https://datasheet.octopart.com:443/M41T00M6F-STMicroelectronics-datasheet-605854.pdf?src-supplier=Arrow+Electronics; ComponentLink5URL: https://datasheet.octopart.com:443/M41T00M6F-STMicroelectronics-datasheet-15096.pdf?src-supplier=Mouser; ComponentLink5Description: https://datasheet.octopart.com:443/M41T00M6F-STMicroelectronics-datasheet-15096.pdf?src-supplier=Mouser; ComponentLink6URL: https://datasheet.octopart.com:443/M41T00M6F-STMicroelectronics-datasheet-104642352.pdf?src-supplier=TME; ComponentLink6Description: https://datasheet.octopart.com:443/M41T00M6F-STMicroelectronics-datasheet-104642352.pdf?src-supplier=TME; ComponentLink7URL: https://datasheet.octopart.com:443/M41T00M6F-STMicroelectronics-datasheet-14079507.pdf?src-supplier=iiiC; ComponentLink7Description: https://datasheet.octopart.com:443/M41T00M6F-STMicroelectronics-datasheet-14079507.pdf?src-supplier=iiiC
footprint SOIC 8
pins: 1 OSC_İN, 2 OSC_OUT, 3 VBAT, 4 VSS, 5 SDA, 6 SCL, 7 FT/OUT, 8 VCC

## RES 10K OHM 0603
designator R?, comment RC0603FR-0710KL
100mW Thick Film Resistors ±100ppm/℃ ±1% 10kΩ 0603 Chip Resistor - Surface Mount ROHS; Manufacturer: Yageo Group; Designed By: Tuğkan; Temperature Coefficient: 100ppm/°C; Voltage Rating: 75V; Voltage Rating (DC): 50V; Supplier: Farnell; Supplier Part Number: 2421850; Manufacturer Part Number: RC0603FR-0710KL; RoHS: Compliant; Category: Chip SMD Resistors; Stock: 14045550; Pricing: 5000=0.0035 (EUR); Case/Package: 0603; Case Code (Imperial): 0603; Case Code (Metric): 0603; China RoHS: Non-Compliant; Composition: Thick Film; Depth: 800µm; Height: 450µm; Lead Free: Lead Free; Lead Pitch: 300µm; Length: 1.6mm; Lifecycle Status: Production; Max Operating Temperature: 155°C; Military Standard: Not; Min Operating Temperature: -55°C; Mounting Technology: Surface Mount; Pins: 2; Number of Terminals: 2; Packaging: Tape & Reel; Power Dissipation: 100mW; Power Rating: 100mW; REACH SVHC: Yes; Value: 10kΩ; Schedule B: 8533210045, 8533210045|8533210045|8533210045|8533210045|8533210045|8533210045|8533210045|8533210045|8533210045|8533210045|8533210045|8533210045|8533210045|8533210045|8533210045|8533210045|8533210045|8533210045|8533210045|8533210045|8533210045|8533210045|8533210045|85; Termination: SMD/SMT; Tolerance: 1%; Weight: 2.012816mg; Width: 800µm; Working Voltage: 75V; ComponentLink1URL: https://datasheet.octopart.com:443/RC0603FR-0710KL-Yageo-datasheet-175887523.pdf?src-supplier=IHS; ComponentLink1Description: https://datasheet.octopart.com:443/RC0603FR-0710KL-Yageo-datasheet-175887523.pdf?src-supplier=IHS; ComponentLink2URL: https://datasheet.octopart.com:443/RC0603FR-0710KL-Yageo-datasheet-103092701.pdf?src-supplier=Upverter; ComponentLink2Description: https://datasheet.octopart.com:443/RC0603FR-0710KL-Yageo-datasheet-103092701.pdf?src-supplier=Upverter; ComponentLink3URL: https://datasheet.octopart.com:443/RC0603FR-0710KL-Yageo-datasheet-98239111.pdf?src-supplier=Upverter; ComponentLink3Description: https://datasheet.octopart.com:443/RC0603FR-0710KL-Yageo-datasheet-98239111.pdf?src-supplier=Upverter; ComponentLink4URL: https://datasheet.octopart.com:443/RC0603FR-0710KL-Yageo-datasheet-141265859.pdf?src-supplier=Upverter; ComponentLink4Description: https://datasheet.octopart.com:443/RC0603FR-0710KL-Yageo-datasheet-141265859.pdf?src-supplier=Upverter; ComponentLink5URL: https://sigma.octopart.com:443/138820526/technical_drawing/Yageo-RC0603FR-0710KL.pdf?src-supplier=Upverter; ComponentLink5Description: https://sigma.octopart.com:443/138820526/technical_drawing/Yageo-RC0603FR-0710KL.pdf?src-supplier=Upverter; ComponentLink6URL: https://datasheet.octopart.com:443/RC0603FR-0710KL-Yageo-datasheet-8328172.pdf?src-supplier=Farnell; ComponentLink6Description: https://datasheet.octopart.com:443/RC0603FR-0710KL-Yageo-datasheet-8328172.pdf?src-supplier=Farnell; ComponentLink7URL: https://datasheet.octopart.com:443/RC0603FR-0710KL-Yageo-datasheet-13691069.pdf?src-supplier=Farnell; ComponentLink7Description: https://datasheet.octopart.com:443/RC0603FR-0710KL-Yageo-datasheet-13691069.pdf?src-supplier=Farnell; ComponentLink8URL: https://datasheet.octopart.com:443/RC0603FR-0710KL-Yageo-datasheet-62067350.pdf?src-supplier=element14+APAC; ComponentLink8Description: https://datasheet.octopart.com:443/RC0603FR-0710KL-Yageo-datasheet-62067350.pdf?src-supplier=element14+APAC; ComponentLink9URL: https://datasheet.octopart.com:443/RC0603FR-0710KL-Yageo-datasheet-17842380.pdf?src-supplier=element14+APAC; ComponentLink9Description: https://datasheet.octopart.com:443/RC0603FR-0710KL-Yageo-datasheet-17842380.pdf?src-supplier=element14+APAC; ComponentLink10URL: https://datasheet.octopart.com:443/RC0603FR-0710KL-Yageo-datasheet-15599030.pdf?src-supplier=Future+Electronics; ComponentLink10Description: https://datasheet.octopart.com:443/RC0603FR-0710KL-Yageo-datasheet-15599030.pdf?src-supplier=Future+Electronics; ComponentLink11URL: https://datasheet.octopart.com:443/RC0603FR-0710KL-Yageo-Group-datasheet-176638170.pdf?src-supplier=Future+Electronics; ComponentLink11Description: https://datasheet.octopart.com:443/RC0603FR-0710KL-Yageo-Group-datasheet-176638170.pdf?src-supplier=Future+Electronics; ComponentLink12URL: https://datasheet.octopart.com:443/RC0603FR-0710KL-Yageo-datasheet-164759695.pdf?src-supplier=Future+Electronics; ComponentLink12Description: https://datasheet.octopart.com:443/RC0603FR-0710KL-Yageo-datasheet-164759695.pdf?src-supplier=Future+Electronics; ComponentLink13URL: https://datasheet.octopart.com:443/RC0603FR-0710KL-Yageo-datasheet-127823281.pdf?src-supplier=Future+Electronics; ComponentLink13Description: https://datasheet.octopart.com:443/RC0603FR-0710KL-Yageo-datasheet-127823281.pdf?src-supplier=Future+Electronics; ComponentLink14URL: https://datasheet.octopart.com:443/RC0603FR-0710KL-Yageo-datasheet-137700087.pdf?src-supplier=Future+Electronics; ComponentLink14Description: https://datasheet.octopart.com:443/RC0603FR-0710KL-Yageo-datasheet-137700087.pdf?src-supplier=Future+Electronics; ComponentLink15URL: https://datasheet.octopart.com:443/RC0603FR-0710KL-Yageo-datasheet-27584510.pdf?src-supplier=Future+Electronics; ComponentLink15Description: https://datasheet.octopart.com:443/RC0603FR-0710KL-Yageo-datasheet-27584510.pdf?src-supplier=Future+Electronics; ComponentLink16URL: https://datasheet.octopart.com:443/RC0603FR-0710KL-Yageo-datasheet-8324193.pdf?src-supplier=Future+Electronics; ComponentLink16Description: https://datasheet.octopart.com:443/RC0603FR-0710KL-Yageo-datasheet-8324193.pdf?src-supplier=Future+Electronics; ComponentLink17URL: https://datasheet.octopart.com:443/RC0603FR-0710KL-Yageo-datasheet-12596169.pdf?src-supplier=Newark; ComponentLink17Description: https://datasheet.octopart.com:443/RC0603FR-0710KL-Yageo-datasheet-12596169.pdf?src-supplier=Newark; ComponentLink18URL: https://datasheet.octopart.com:443/RC0603FR-0710KL-Yageo-datasheet-503470.pdf?src-supplier=Newark; ComponentLink18Description: https://datasheet.octopart.com:443/RC0603FR-0710KL-Yageo-datasheet-503470.pdf?src-supplier=Newark; ComponentLink19URL: https://datasheet.octopart.com:443/RC0603FR-0710KL-Yageo-datasheet-34211833.pdf?src-supplier=Newark; ComponentLink19Description: https://datasheet.octopart.com:443/RC0603FR-0710KL-Yageo-datasheet-34211833.pdf?src-supplier=Newark; ComponentLink20URL: https://datasheet.octopart.com:443/RC0603FR-0710KL-Yageo-datasheet-79472498.pdf?src-supplier=Megastar; ComponentLink20Description: https://datasheet.octopart.com:443/RC0603FR-0710KL-Yageo-datasheet-79472498.pdf?src-supplier=Megastar; ComponentLink21URL: https://datasheet.octopart.com/RC0603FR-0710KL-Yageo-datasheet-73766026.pdf; ComponentLink21Description: https://datasheet.octopart.com/RC0603FR-0710KL-Yageo-datasheet-73766026.pdf; ComponentLink22URL: https://datasheet.octopart.com:443/RC0603FR-0710KL-Yageo-datasheet-118562.pdf?src-supplier=DigiKey; ComponentLink22Description: https://datasheet.octopart.com:443/RC0603FR-0710KL-Yageo-datasheet-118562.pdf?src-supplier=DigiKey; ComponentLink23URL: http://sigma.octopart.com:80/conflict_mineral_statement/Yageo-company-3.pdf?src-supplier=Compliance+Statements; ComponentLink23Description: http://sigma.octopart.com:80/conflict_mineral_statement/Yageo-company-3.pdf?src-supplier=Compliance+Statements; ComponentLink24URL: http://sigma.octopart.com:80/rohs_statement/Yageo-company-2.pdf?src-supplier=Compliance+Statements; ComponentLink24Description: http://sigma.octopart.com:80/rohs_statement/Yageo-company-2.pdf?src-supplier=Compliance+Statements
footprint RES_0603
pins: 1 4, 2 5

## SSM3K357RLF
designator O?
Trans MOSFET N-CH Si 60V 0.65A Automotive 3-Pin SOT-23F T/R; Manufacturer: Toshiba; Manufacturer Part Number: SSM3K357R,LF; Continuous Drain Current (ID): 650mA; Drain to Source Resistance: 2.4Ω; Max Power Dissipation: 1W; Number of Elements: 1; Cash/Package: SOT23F; Supplier: Arrow Electronics; Supplier Part Number: SSM3K357R,LF; RoHS: Compliant; Category: MOSFETs; Stock: 396; Pricing: 1=0.519, 10=0.3224, 100=0.2049 (USD); Export Control Classification Number (ECCN) Code: EAR99; Introduction Date: 2021-01-07; Lifecycle Status: Production; Max Operating Temperature: 150°C; Min Breakdown Voltage: 60V; Number of Terminals: 3; REACH SVHC: Yes; Schedule B: 8541290080, 8541290080|8541290080|8541290080|8541290080|8541290080; ComponentLink1URL: https://datasheet.octopart.com:443/SSM3K357R%2CLF-Toshiba-datasheet-181391593.pdf?src-supplier=IHS; ComponentLink1Description: https://datasheet.octopart.com:443/SSM3K357R%2CLF-Toshiba-datasheet-181391593.pdf?src-supplier=IHS
footprint SOT23F
pins: 1, 2, 3

## STM32F103C6T6A
designator U?
MCU 32-bit STM32F ARM Cortex M3 RISC 32KB Flash 2.5V/3.3V 48-Pin LQFP Tray; Manufacturer: STMicroelectronics; Address Bus Width: 32b; Frequency: 72MHz; Interface: CAN, I2C, IrDA, LIN, SPI, UART, USART, USB; Clock Frequency: 16MHz; Max Power Dissipation: 363mW; Max Supply Current: 45mA; Max Supply Voltage: 3.6V; Min Supply Voltage: 2V; Nominal Supply Current: 1.55µA; Number of A/D Converters: 2; Number of ADC Channels: 10; Number of I2C Channels: 1; Number of I/Os: 37; Number of Timers/Counters: 3; Operating Supply Voltage: 3.3V; Oscillator Type: Internal; Peripherals: DMA, I2C, POR, PWM, Temp Sensor, WDT; RAM Size: 10kB; Watchdog Timer: Yes; Designed by: Tuğkan; Supplier: Farnell; Supplier Part Number: 1972391; Manufacturer Part Number: STM32F103C6T6A; RoHS: Compliant; Category: Microcontrollers; Stock: 10163; Pricing: 1=4.74, 10=3.63, 25=3.35, 50=3.08, 100=2.81, 250=2.67, 500=2.66 (EUR); Case/Package: LQFP; China RoHS: Compliant; Core Architecture: ARM; Country of Origin: Malaysia; Data Bus Width: 32b; Export Control Classification Number (ECCN) Code: 3A991.A.2; Flash Memory Size: 32kB; Height: 1.45mm; Harmonized Tariff Schedule (HTS) Code: 8542.31.00.25; Introduction Date: 2007-06-07; Lead Free: Lead Free; Length: 7mm; Lifecycle Status: Production; Max Operating Temperature: 85°C; Memory Size: 32kB; Memory Format: FLASH; Min Operating Temperature: -40°C; Number of Channels: 10; Pins: 48; Number of Programmable I/O: 37; Number of SPI Channels: 1; Number of Terminals: 48; Number of USART Channels: 2; Radiation Hardening: No; REACH SVHC: Yes; Schedule B: 8542310000; Terminal Pitch: 500µm; Width: 7mm; ComponentLink1URL: https://datasheet.octopart.com:443/STM32F103C6T6A-STMicroelectronics-datasheet-44506906.pdf?src-supplier=Newark; ComponentLink1Description: https://datasheet.octopart.com:443/STM32F103C6T6A-STMicroelectronics-datasheet-44506906.pdf?src-supplier=Newark; ComponentLink2URL: https://datasheet.octopart.com:443/STM32F103C6T6A-STMicroelectronics-datasheet-10669440.pdf?src-supplier=Newark; ComponentLink2Description: https://datasheet.octopart.com:443/STM32F103C6T6A-STMicroelectronics-datasheet-10669440.pdf?src-supplier=Newark; ComponentLink3URL: https://datasheet.octopart.com:443/STM32F103C6T6A-STMicroelectronics-datasheet-16839797.pdf?src-supplier=Newark; ComponentLink3Description: https://datasheet.octopart.com:443/STM32F103C6T6A-STMicroelectronics-datasheet-16839797.pdf?src-supplier=Newark; ComponentLink4URL: https://datasheet.octopart.com:443/STM32F103C6T6A-STMicroelectronics-datasheet-14106722.pdf?src-supplier=iiiC; ComponentLink4Description: https://datasheet.octopart.com:443/STM32F103C6T6A-STMicroelectronics-datasheet-14106722.pdf?src-supplier=iiiC; ComponentLink5URL: https://datasheet.octopart.com:443/STM32F103C6T6A-STMicroelectronics-datasheet-140570543.pdf?src-supplier=Arrow.cn; ComponentLink5Description: https://datasheet.octopart.com:443/STM32F103C6T6A-STMicroelectronics-datasheet-140570543.pdf?src-supplier=Arrow.cn; ComponentLink6URL: https://datasheet.octopart.com:443/STM32F103C6T6A-STMicroelectronics-datasheet-8332104.pdf?src-supplier=Future+Electronics; ComponentLink6Description: https://datasheet.octopart.com:443/STM32F103C6T6A-STMicroelectronics-datasheet-8332104.pdf?src-supplier=Future+Electronics
footprint LQFP-48
pins: 1 VBAT, 2 PC13, 3 OSC32_İN, 4 OSC32_OUT, 5 OSC_İN, 6 OSC_OUT, 7 NRST, 8 VSSA, 9 VDDA, 10 PA0 - WKP, 11 PA1, 12 PA2, 13 PA3, 14 SPI_NSS, 15 SPI_SCK, 16 SPI_MISO, 17 SPI_MOSİ, 18 PB0, 19 PB1, 20 PB2, 21 PB10, 22 PB11, 23 VSS, 24 VDD, 25 PB12, 26 PB13, 27 PB14, 28 PB15, 29 UART_CK, 30 UART_TX, 31 UART_RX, 32 USB_N, 33 USB_P, 34 PA13, 35 VSS, 36 VDD, 37 PA14, 38 PA15, 39 PB3, 40 PB4, 41 PB5, 42 I2C_SCL, 43 I2C_SDA, 44 BOOT0, 45 PB8, 46 PB9, 47 VSS, 48 VDD